# EAGLE library part LTC3542-1 (library PowerProducts)
500mA, 2.25MHz 500mA, 2.25MHz Step-Down DC/DC Converter
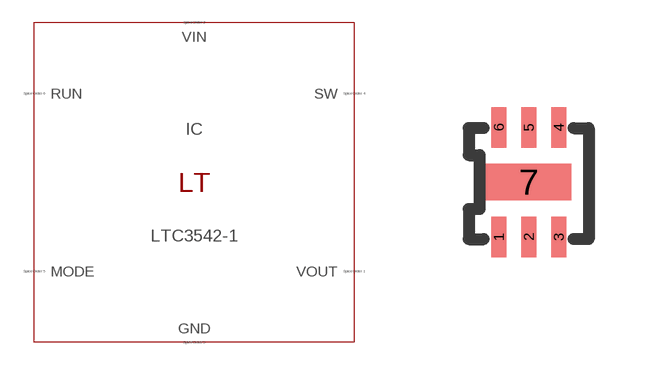
[diagram p234: symbol with the pads of DFN6(DC); footprint DFN6(DC)]

Designator prefix IC

## LTC3542-1 (SPICEMODEL: LTC3542-1.sub; SPICEPREFIX: X; VALUE2: LTC3542-1)  [DFN6(DC)]
1  VOUT  pas
2  VIN  pas
3  GND  pas
4  SW  pas
5  MODE  pas
6  RUN  pas
7  GND  pas

## Footprint DFN6(DC) (pad centres in mm)
Package generated from: DFN6(DC).asc (!PADS-POWERPCB-V5.0-BASIC! DESIGN DATABASE ASCII FILE 1.0) with :import-pads-powerpcb-v5.ulp Version 1.0.1 at 04.10.2012 14:11:17
smd 0.375 x 1.012: 1 -0.75,-1.369; 2 0,-1.369; 3 0.75,-1.369; 4 0.75,1.369; 5 0,1.369; 6 -0.75,1.369
smd 2.13 x 0.915: 7 0,0